# EAGLE library part 62001421821 (library Board-to-Board (rev18a))
WR-PHD 2.00mm Dual Socket Header, 14 Pins=>Code : Con_BTB_SHD_2.00_2_62001421821 <http://katalog.we-online.de/media/thumbs2/eican/thb_Con_BTB_SHD_2.00_2_6200xx21821_pf2.jpg> Details see: http://katalog.we-online.de/en/em/PHD_2_00_DUAL_SOCKET_HEADER_6200XX21821 Created 2014-06-03, Karrer Zheng 2014 (C) Würth Elektronik
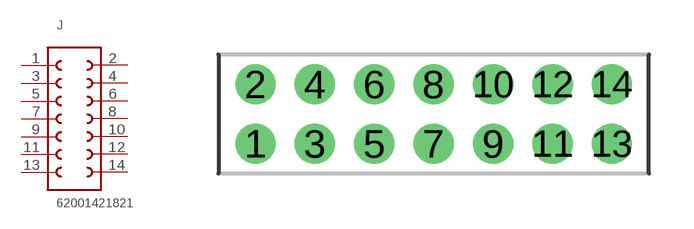
[diagram p247: symbol with the pads of 62001421821; footprint 62001421821]

Designator prefix J

## 62001421821  [62001421821]
1  1  pas
2  14  pas
3  2  pas
4  13  pas
5  3  pas
6  12  pas
7  4  pas
8  11  pas
9  5  pas
10  10  pas
11  6  pas
12  9  pas
13  7  pas
14  8  pas

## Footprint 62001421821 (pad centres in mm)
WR-PHD 2.00mm Dual Socket Header, 14 Pins
drill 0.85: 1 -6,-1; 2 -6,1; 3 -4,-1; 4 -4,1; 5 -2,-1; 6 -2,1; 7 0,-1; 8 0,1; 9 2,-1; 10 2,1; 11 4,-1; 12 4,1; 13 6,-1; 14 6,1